# Altium footprint library OSSI.PCBLIB: 194 footprints (part 12 of 13)
Each footprint in its own frame and in the unit in brackets; x right, y up, seen from the top. Pads: shape width x height; smd on the part's side, far side on the other; paste and mask are expansions set on the pad; w line width, h text height; cw(c..) or ccw(c..) is an arc to the next point about the centre after c.
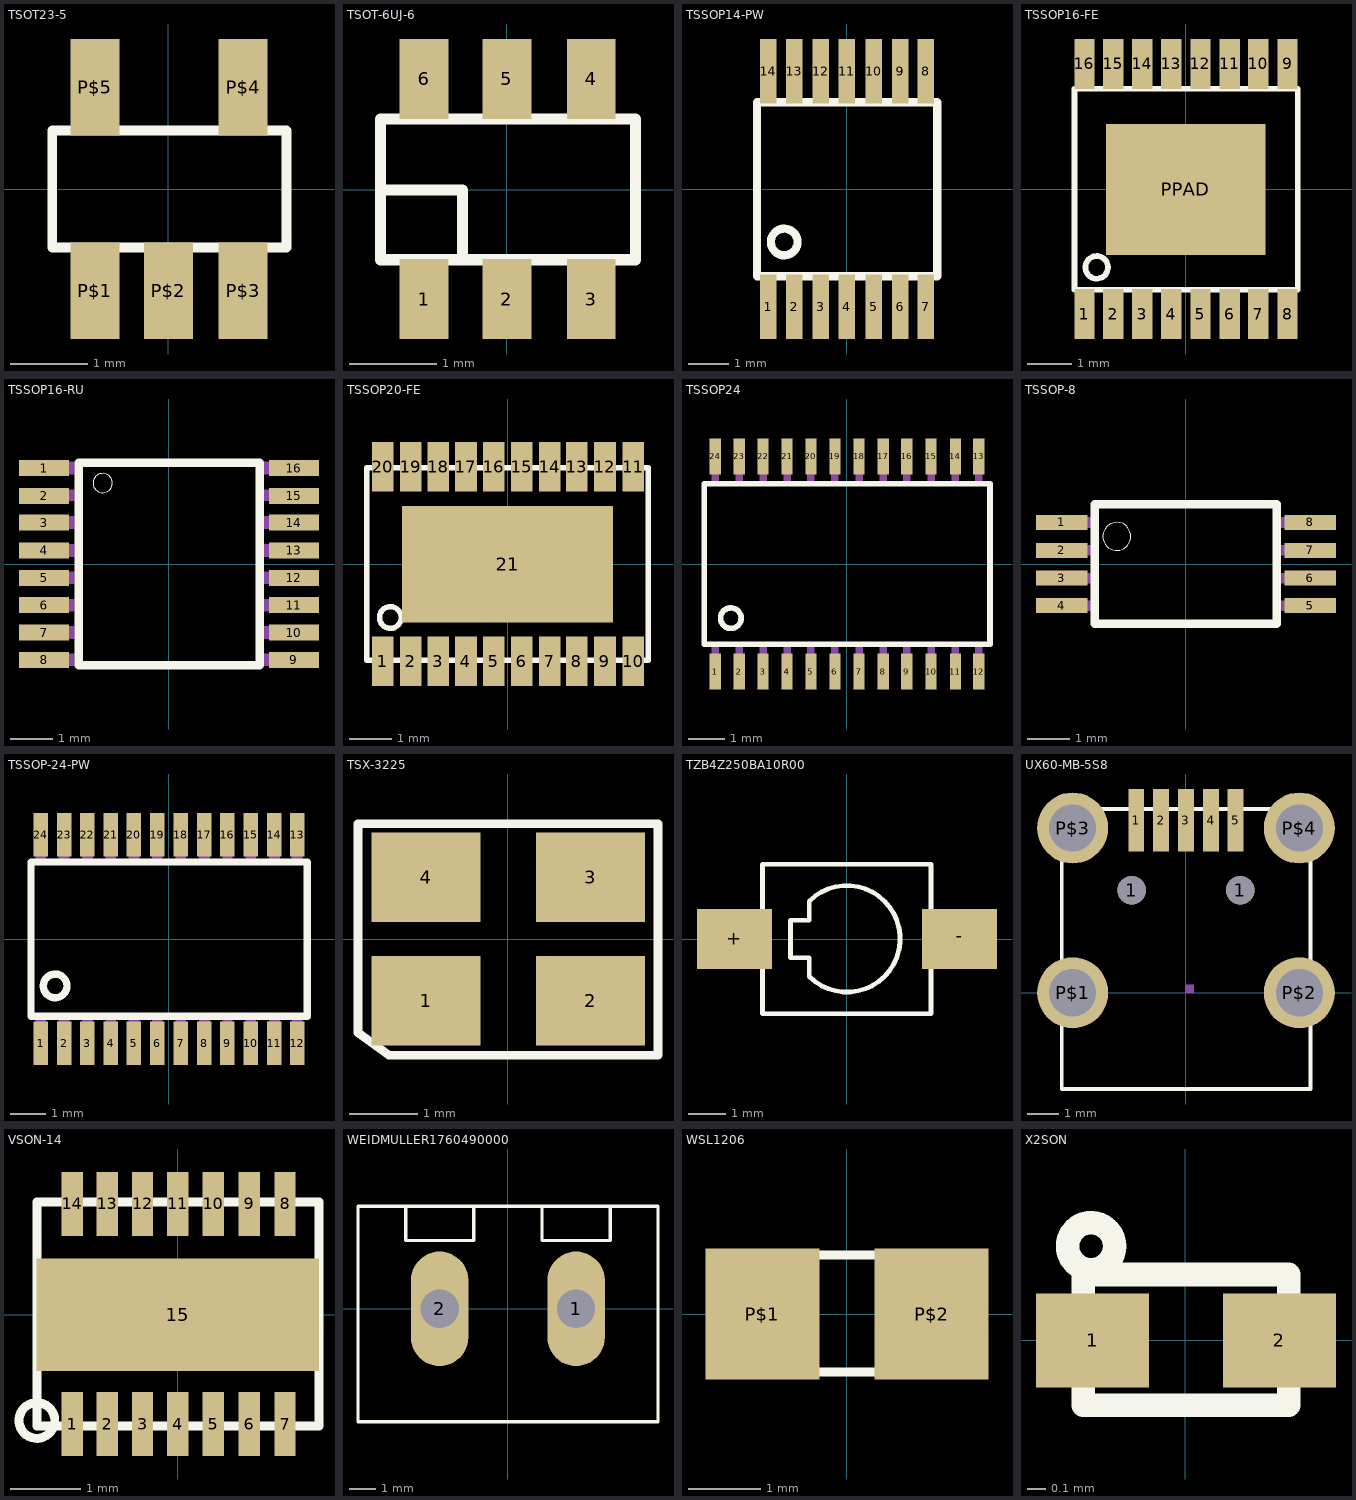
[diagram p11: the footprints below, top view; thin cyan lines are the x and y axes]

## TSOT23-5 [mil]
pads (5):
  rect 25x49 smd: P$1(-37.4,-51.57) P$2(0,-51.57) P$3(38,-51.57) P$4(38,52) P$5(-37.4,52)
Top Overlay:
  lines w5: -59.06,-29.53 60,-29.53 60,30 -59.06,30 -59.06,-29.53
Mechanical 2:
  text ">NAME" at -78.74,-137.8 h77.5
Mechanical 4:
  text ">VALUE" at 128,-147.64 h77.5

## TSOT-6UJ-6 [mil]
pads (6):
  rect 22x36 smd: 1(-37.4,-49.21) 2(0,-49.21) 3(38,-49.21) 4(38,50) 5(0,50) 6(-37.4,50)
Top Overlay:
  lines w5: -55,0 -20,0 -20,-30 ; -57.09,-31.5 58,-31.5 58,32 -57.09,32 -57.09,-31.5
Mechanical 2:
  text ">NAME" at -78.74,-118.11 h77.5
Mechanical 4:
  text ">VALUE" at 119,-118.11 h77.5

## TSSOP14-PW [mil]
pads (14):
  rect 16x63 smd: 1(-76.77,-114.17) 2(-51.18,-114.17) 3(-25.59,-114.17) 4(0,-114.17) 5(26,-114.17) 6(52,-114.17) 7(77,-114.17) 8(77,115) 9(52,115) 10(26,115) 11(0,115) 12(-25.59,115) 13(-51.18,115) 14(-76.77,115)
Top Overlay:
  circle w8: c-61.02,-51.18 r13
  lines w8: -87.6,-84.65 88,-84.65 88,85 -87.6,85 -87.6,-84.65
Mechanical 2:
  text ">NAME" at -100,-100 h77.5
Mechanical 4:
  text ">VALUE" at 150,-100 h77.5
Mechanical 16:
  rectangle: -82.68,-129.92 -70.87,-87.8
  rectangle: -57.09,-129.92 -45.28,-87.8
  rectangle: -31.5,-129.92 -19.68,-87.8
  rectangle: -5.91,-129.92 6,-87.8
  rectangle: 20,-129.92 32,-87.8
  rectangle: 46,-129.92 58,-87.8
  rectangle: 71,-129.92 83,-87.8
  region: 83,130 71,130 71,88 83,88
  region: 58,130 46,130 46,88 58,88
  region: 32,130 20,130 20,88 32,88
  region: 6,130 -5.91,130 -5.91,88 6,88
  region: -19.68,130 -31.5,130 -31.5,88 -19.69,88
  region: -45.28,130 -57.09,130 -57.09,88 -45.28,88
  region: -70.87,130 -82.68,130 -82.68,88 -70.87,88

## TSSOP16-FE [mil]
pads (17):
  rect 18x44 smd: 1(-89.57,-110.24) 2(-63.98,-110.24) 3(-38.39,-110.24) 4(-12.8,-110.24) 5(13,-110.24) 6(39,-110.24) 7(64,-110.24) 8(90,-110.24) 9(90,111) 10(64,111) 11(39,111) 12(13,111) 13(-12.8,111) 14(-38.39,111) 15(-63.98,111) 16(-89.57,111)
  rect 141x116 smd: PPAD(0,0)
Top Overlay:
  circle w5: c-78.74,-68.9 r10
  lines w5: -98.43,-88.58 99,-88.58 99,89 -98.43,89 -98.43,-88.58
Mechanical 2:
  text ">NAME" at -108.27,-127.95 h77.5
Mechanical 4:
  text ">VALUE" at 158,-147.64 h77.5

## TSSOP16-RU [mil]
pads (16):
  rect 47x15 smd: 1(-116.93,90) 2(-116.93,64) 3(-116.93,39) 4(-116.93,13) 5(-116.93,-12.8) 6(-116.93,-38.39) 7(-116.93,-63.98) 8(-116.93,-89.57) 9(117,-89.57) 10(117,-63.98) 11(117,-38.39) 12(117,-12.8) 13(117,13) 14(117,39) 15(117,64) 16(117,90)
Top Overlay:
  circle w0: c-62.01,76 r9
  lines w8: -84.58,-94.43 85,-94.43 85,95 -84.58,95 -84.58,-94.43
Mechanical 2:
  text ">NAME" at -125,125 h77.5
Mechanical 4:
  text ">VALUE" at -125,-175 h77.5
Mechanical 16:
  rectangle: -125.98,84 -88.58,96
  rectangle: -125.98,59 -88.58,70
  rectangle: -125.98,33 -88.58,45
  rectangle: -125.98,7 -88.58,19
  rectangle: -125.98,-18.7 -88.58,-6.89
  rectangle: -125.98,-44.29 -88.58,-32.48
  rectangle: -125.98,-69.88 -88.58,-58.07
  rectangle: -125.98,-95.47 -88.58,-83.66
  region: 126,-83.66 89,-83.66 89,-95.47 126,-95.47
  region: 126,-58.07 89,-58.07 89,-69.88 126,-69.88
  region: 126,-32.48 89,-32.48 89,-44.29 126,-44.29
  region: 126,-6.89 89,-6.89 89,-18.7 126,-18.7
  region: 126,19 89,19 89,7 126,7
  region: 126,45 89,45 89,33 126,33
  region: 126,70 89,70 89,59 126,59
  region: 126,96 89,96 89,84 126,84

## TSSOP20-FE [mil]
pads (21):
  rect 20x46 smd: 1(-115.16,-89.57) 2(-89.57,-89.57) 3(-63.98,-89.57) 4(-38.39,-89.57) 5(-12.8,-89.57) 6(13,-89.57) 7(39,-89.57) 8(64,-89.57) 9(90,-89.57) 10(116,-89.57) 11(116,90) 12(90,90) 13(64,90) 14(39,90) 15(13,90) 16(-12.8,90) 17(-38.39,90) 18(-63.98,90) 19(-89.57,90) 20(-115.16,90)
  rect 195x108 smd: 21(0,0)
Top Overlay:
  circle w5: c-108.27,-49.21 r10
  lines w5: -129.92,-88.58 130,-88.58 130,89 -129.92,89 -129.92,-88.58
Mechanical 2:
  text ">NAME" at -157.48,-118.11 h77.5
Mechanical 4:
  text ">VALUE" at 197,-118.11 h77.5

## TSSOP24 [mil]
pads (24):
  rect 12x39 smd: 1(-140.75,-114.87) 2(-115.16,-114.87) 3(-89.57,-114.87) 4(-63.98,-114.87) 5(-38.39,-114.87) 6(-12.8,-114.87) 7(13,-114.87) 8(39,-114.87) 9(64,-114.87) 10(90,-114.87) 11(116,-114.87) 12(141,-114.87) 13(141,115) 14(116,115) 15(90,115) 16(64,115) 17(39,115) 18(13,115) 19(-12.8,115) 20(-38.39,115) 21(-63.98,115) 22(-89.57,115) 23(-115.16,115) 24(-140.75,115)
Top Overlay:
  circle w6: c-124.04,-57.84 r11
  lines w6: -152.56,-85.63 153,-85.63 153,86 -152.56,86 -152.56,-85.63
Mechanical 2:
  text ">NAME" at -165.18,-82 h62
Mechanical 4:
  text ">VALUE" at 205,-82 h62
Mechanical 16:
  rectangle: -144.75,-122.87 -136.75,-88.58
  rectangle: -119.16,-122.87 -111.16,-88.58
  rectangle: -93.57,-122.87 -85.57,-88.58
  rectangle: -67.98,-122.87 -59.98,-88.58
  rectangle: -42.39,-122.87 -34.39,-88.58
  rectangle: -16.8,-122.87 -8.8,-88.58
  rectangle: 9,-122.87 17,-88.58
  rectangle: 35,-122.87 43,-88.58
  rectangle: 60,-122.87 68,-88.58
  rectangle: 86,-122.87 94,-88.58
  rectangle: 112,-122.87 120,-88.58
  rectangle: 137,-122.87 145,-88.58
  rectangle: 137,89 145,123
  rectangle: 112,89 120,123
  rectangle: 86,89 94,123
  rectangle: 60,89 68,123
  rectangle: 35,89 43,123
  rectangle: 9,89 17,123
  rectangle: -16.8,89 -8.8,123
  rectangle: -42.39,89 -34.39,123
  rectangle: -67.98,89 -59.98,123
  rectangle: -93.57,89 -85.57,123
  rectangle: -119.16,89 -111.16,123
  rectangle: -144.75,89 -136.75,123

## TSSOP-8 [mil]
pads (8):
  rect 48x14 smd: 1(-115.16,39) 2(-115.16,13) 3(-115.16,-12.8) 4(-115.16,-38.39) 5(116,-38.39) 6(116,-12.8) 7(116,13) 8(116,39)
Top Overlay:
  circle w0: c-63.98,26 r13
  lines w8: -84.65,-55.12 85,-55.12 85,56 -84.65,56 -84.65,-55.12
Mechanical 2:
  text ">NAME" at -115.16,64 h77.5
Mechanical 4:
  text ">VALUE" at -127.95,-115.16 h77.5
Mechanical 16:
  rectangle: -125.98,34 -86.61,44
  rectangle: -125.98,8 -86.61,18
  rectangle: -125.98,-17.72 -86.61,-7.87
  rectangle: -125.98,-43.31 -86.61,-33.46
  rectangle: 87,-43.31 126,-33.46
  rectangle: 87,-17.72 126,-7.87
  rectangle: 87,8 126,18
  rectangle: 87,34 126,44

## TSSOP-24-PW [mil]
pads (24):
  rect 16x48 smd: 1(-140.75,-114.17) 2(-115.16,-114.17) 3(-89.57,-114.17) 4(-63.98,-114.17) 5(-38.39,-114.17) 6(-12.8,-114.17) 7(13,-114.17) 8(39,-114.17) 9(64,-114.17) 10(90,-114.17) 11(116,-114.17) 12(141,-114.17) 13(141,115) 14(116,115) 15(90,115) 16(64,115) 17(39,115) 18(13,115) 19(-12.8,115) 20(-38.39,115) 21(-63.98,115) 22(-89.57,115) 23(-115.16,115) 24(-140.75,115)
Top Overlay:
  circle w8: c-125,-51.18 r13
  lines w8: -151.57,-84.65 152,-84.65 152,85 -151.57,85 -151.57,-84.65
Mechanical 2:
  text ">NAME" at -166.34,-89.57 h77.5
Mechanical 4:
  text ">VALUE" at 218,-89.57 h77.5
Mechanical 16:
  rectangle: -146.65,-129.92 -134.84,-87.8
  rectangle: -121.06,-129.92 -109.25,-87.8
  rectangle: -95.47,-129.92 -83.66,-87.8
  rectangle: -69.88,-129.92 -58.07,-87.8
  rectangle: -44.29,-129.92 -32.48,-87.8
  rectangle: -18.7,-129.92 -6.89,-87.8
  rectangle: 7,-129.92 19,-87.8
  rectangle: 33,-129.92 45,-87.8
  rectangle: 59,-129.92 70,-87.8
  rectangle: 84,-129.92 96,-87.8
  rectangle: 110,-129.92 122,-87.8
  rectangle: 135,-129.92 147,-87.8
  region: 147,130 135,130 135,88 147,88
  region: 122,130 110,130 110,88 122,88
  region: 96,130 84,130 84,88 96,88
  region: 70,130 59,130 59,88 70,88
  region: 45,130 33,130 33,88 45,88
  region: 19,130 7,130 7,88 19,88
  region: -6.89,130 -18.7,130 -18.7,88 -6.89,88
  region: -32.48,130 -44.29,130 -44.29,88 -32.48,88
  region: -58.07,130 -69.88,130 -69.88,88 -58.07,88
  region: -83.66,130 -95.47,130 -95.47,88 -83.66,88
  region: -109.25,130 -121.06,130 -121.06,88 -109.25,88
  region: -134.84,130 -146.65,130 -146.65,88 -134.84,88

## TSX-3225 [mil]
pads (4):
  rect 63x52 smd: 1(-47.24,-35.43) 2(48,-35.43) 3(48,36) 4(-47.24,36)
Top Overlay:
  circle w5: c-41.34,-29.53 r16
  lines w5: -86.61,-53.98 -86.61,67 87,67 87,-66.93 -68.74,-66.93 -86.61,-53.98
Mechanical 2:
  text ">NAME" at -78.74,79 h77.5
Mechanical 4:
  text ">VALUE" at -78.74,-122.05 h77.5

## TZB4Z250BA10R00 [mil]
pads (2):
  rect 79x63 smd: +(-118.11,0) -(119,0)
Top Overlay:
  lines w5: -88.58,-78.74 89,-78.74 89,79 -88.58,79 -88.58,-78.74 ; -59.06,-19.68 -39.37,-19.68 -39.37,-39.37 ccw(c0.32,0.32) -39.37,40 -39.37,20 -59.06,20 -59.06,-19.68
Mechanical 2:
  text ">NAME" at -137.8,-137.8 h77.5
Mechanical 4:
  text ">VALUE" at -137.8,-196.85 h77.5

## UX60-MB-5S8 [mil]
pads (11):
  round 36 hole 36: 1(-68.9,130) 1(69,130)
  rect 20x79 smd: 1(-62.99,219) 2(-31.5,219) 3(0,219) 4(32,219) 5(63,219)
  round 90 hole 60: P$1(-143.7,0) P$2(144,0) P$3(-143.7,209) P$4(144,209)
Top Overlay:
  lines w5: -157.48,-122.05 158,-122.05 158,233 -157.48,233 -157.48,-122.05
Mechanical 27:
  region: 0,0 10,0 10,10 0,10

## VSON-14 [mil]
pads (15):
  rect 12x36 smd: 1(-59.06,-61.02) 2(-39.37,-61.02) 3(-19.68,-61.02) 4(0,-61.02) 5(20,-61.02) 6(40,-61.02) 7(60,-61.02) 8(60,62) 9(40,62) 10(20,62) 11(0,62) 12(-19.68,62) 13(-39.37,62) 14(-59.06,62)
  rect 158x63 smd: 15(0,0)
Top Overlay:
  circle w5: c-78.74,-59.06 r10
  lines w5: -78.74,-62.2 79,-62.2 79,63 -78.74,63 -78.74,-62.2
Mechanical 2:
  text ">NAME" at -137.8,99 h77.5
Mechanical 4:
  text ">VALUE" at -137.8,-137.8 h77.5

## WEIDMULLER1760490000 [mil]
pads (2):
  oval 84x168 hole 56: 1(100,0) 2(-100,0)
Top Overlay:
  lines w5: -150,150 -150,100 -50,100 -50,150 ; 50,150 50,100 150,100 150,150 ; -219.69,-165.35 220,-165.35 220,150 -219.69,150 -219.69,-165.35
Mechanical 2:
  text ">NAME" at -300,-100 h77.5
Mechanical 4:
  text ">VALUE" at -225,-125 h77.5

## WSL1206 [mil]
pads (2):
  rect 62x71 smd: P$1(-45.87,0) P$2(46,0)
Top Overlay:
  lines w5: -62.99,-31.5 -62.99,32 63,32 63,-31.5 -62.99,-31.5
Mechanical 2:
  text ">NAME" at -125,50 h77.5
Mechanical 4:
  text ">VALUE" at -150,-100 h77.5

## X2SON [mil]
pads (2):
  rect 24x20 smd: 1(-19.68,0) 2(20,0)
Top Overlay:
  circle w5: c-20,20 r5
  lines w5: -21.65,-13.78 -21.65,14 22,14 22,-13.78 -21.65,-13.78
Mechanical 2:
  text ">NAME" at -50,-100 h77.5
Mechanical 4:
  text ">VALUE" at -50,-150 h77.5